# Altium footprint library ESLPcbLib.PcbLib: 11 footprints
Each footprint in its own frame and in the unit in brackets; x right, y up, seen from the top. Pads: shape width x height; smd on the part's side, far side on the other; paste and mask are expansions set on the pad; w line width, h text height; cw(c..) or ccw(c..) is an arc to the next point about the centre after c.
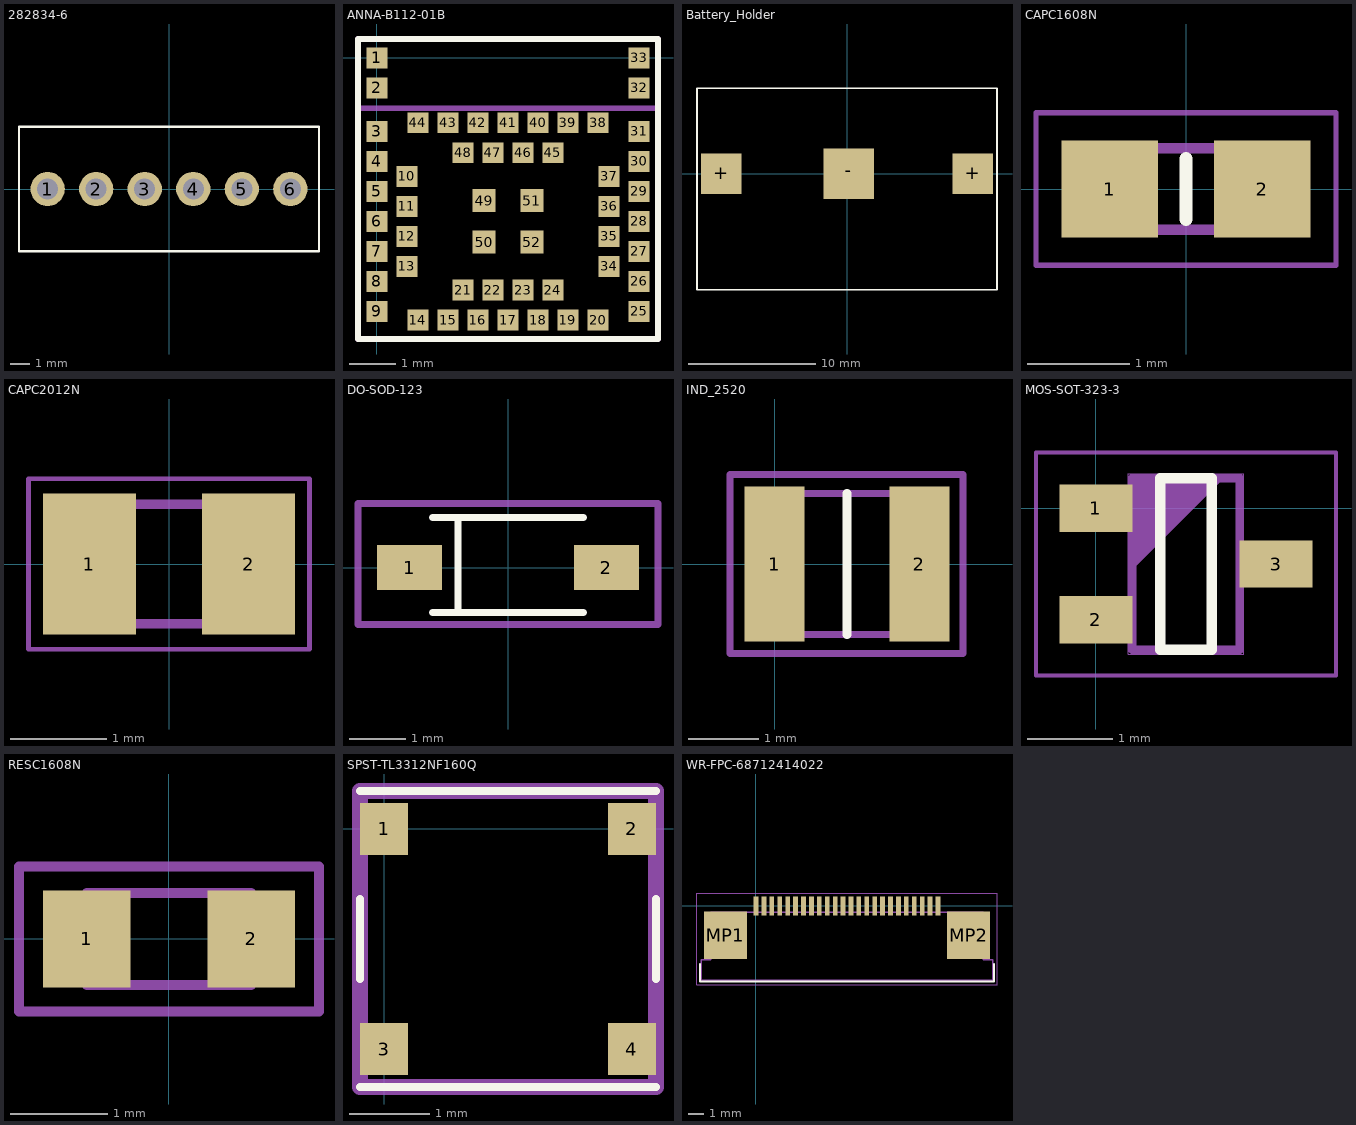
[diagram p0: the footprints below, top view; thin cyan lines are the x and y axes]

## 282834-6 [mm]
pads (6):
  round 1.8 hole 1.1 mask+0.05: 1(-6.35,0) 2(-3.81,0) 3(-1.27,0) 4(1.27,0) 5(3.81,0) 6(6.35,0)
Top Overlay:
  lines w0.127: -7.85,-3.25 7.85,-3.25 7.85,3.25 -7.85,3.25 -7.85,-3.25

## ANNA-B112-01B [mm]
pads (52):
  rect 0.45x0.45 smd: 1(0,0) 2(0,-0.65) 3(0,-1.592) 4(0,-2.242) 5(0,-2.892) 6(0,-3.542) 7(0,-4.192) 8(0,-4.842) 9(0,-5.492) 10(0.65,-2.567) 11(0.65,-3.217) 12(0.65,-3.867) 13(0.65,-4.517) 14(0.89,-5.68) 15(1.54,-5.68) 16(2.19,-5.68) 17(2.84,-5.68) 18(3.49,-5.68) 19(4.14,-5.68) 20(4.79,-5.68) 21(1.865,-5.03) 22(2.515,-5.03) 23(3.165,-5.03) 24(3.815,-5.03) 25(5.68,-5.492) 26(5.68,-4.842) 27(5.68,-4.192) 28(5.68,-3.542) 29(5.68,-2.892) 30(5.68,-2.242) 31(5.68,-1.592) 32(5.68,-0.65) 33(5.68,0) 34(5.03,-4.517) 35(5.03,-3.867) 36(5.03,-3.217) 37(5.03,-2.567) 38(4.79,-1.405) 39(4.14,-1.405) 40(3.49,-1.405) 41(2.84,-1.405) 42(2.19,-1.405) 43(1.54,-1.405) 44(0.89,-1.405) 45(3.815,-2.055) 46(3.165,-2.055) 47(2.515,-2.055) 48(1.865,-2.055)
  rect 0.5x0.5 smd: 49(2.32,-3.092) 50(2.32,-3.992) 51(3.36,-3.092) 52(3.36,-3.992)
Top Overlay:
  lines w0.127: -0.41,-6.09 6.09,-6.09 6.09,0.41 -0.41,0.41 -0.41,-6.09
Mechanical 15:
  lines w0.127: -0.41,-6.09 -0.41,-1.09 ; -0.41,-6.09 -0.41,-1.09 ; -0.41,-6.09 6.09,-6.09 ; -0.41,-6.09 6.09,-6.09 ; -0.41,-1.09 -0.41,0.41 ; -0.41,-1.09 -0.41,0.41 ; -0.41,-1.09 6.09,-1.09 ; -0.41,-1.09 6.09,-1.09 ; -0.41,0.41 6.09,0.41 ; -0.41,0.41 6.09,0.41 ; 6.09,-6.09 6.09,-1.09 ; 6.09,-6.09 6.09,-1.09 ; 6.09,-1.09 6.09,0.41 ; 6.09,-1.09 6.09,0.41
3D body "ANNA-B112--3DModel-STEP-56544.STEP": height 1.25, standoff 0, extent -0.41,-6.142 6.09,0.358

## Battery_Holder [mm]
pads (3):
  rect 3.18x3.18 smd: +(-9.906,0) +(9.906,0)
  rect 3.96x3.96 smd: -(0.127,0)
Top Overlay:
  lines w0.125: -11.811,6.731 11.811,6.731
  lines w0.127: -11.811,6.731 -11.811,2.413 -11.811,-4.445 -11.811,-9.144 -10.414,-9.144 11.811,-9.144 11.811,6.731
3D body "User Library-001085 cr-1632 batt.STEP": height -0.6, standoff -3.8, extent -7.873,-8.761 8.127,7.239
3D body "keystone-PN3092.STEP": height 3.95, standoff -0.01, extent -11.354,-8.763 11.354,6.325

## CAPC1608N [mm]
pads (2):
  rrect0% 0.95x0.95 smd: 1(-0.75,0) 2(0.75,0)
Top Overlay:
  lines w0.127: 0,-0.3 0,0.3
Mechanical 15:
  lines w0.05: -1.475,-0.75 1.475,-0.75 1.475,0.75 -1.475,0.75 -1.475,-0.75
  lines w0.1: -0.8,-0.4 -0.8,0.4 0.8,0.4 0.8,-0.4 -0.8,-0.4
3D body "UMK107BJ105KA-T.stp": height 0.81, standoff 0.01, extent -0.85,-0.45 0.75,0.45

## CAPC2012N [mm]
pads (2):
  rect 0.97x1.47 smd: 1(-0.83,0) 2(0.83,0)
Mechanical 15:
  lines w0.05: -1.465,-0.89 -1.465,0.89 1.465,0.89 1.465,-0.89 -1.465,-0.89
  lines w0.1: -1,-0.625 -1,0.625 1,0.625 1,-0.625 -1,-0.625
3D body "GRM21BZ71H475KE15K.stp": height 1.18, standoff -0.07, extent -1.127,-0.762 0.873,0.688

## DO-SOD-123 [mm]
pads (2):
  rect 1.15x0.8 smd: 1(-1.75,0) 2(1.75,0)
Top Overlay:
  lines w0.127: -1.345,-0.8 1.345,-0.8 ; -1.345,0.889 1.345,0.889 ; -0.889,-0.8 -0.889,0.889
Mechanical 15:
  lines w0.125: -2.667,-1.016 -2.667,1.143 2.667,1.143 2.667,-1.016 -2.667,-1.016
3D body "MBR0530T1G.stp": height 1.35, standoff 0, extent -1.601,-0.8 2.109,0.8

## IND_2520 [mm]
pads (2):
  rect 0.85x2.2 smd: 1(0,0) 2(2.05,0)
Top Overlay:
  lines w0.127: 1.025,-1 1.025,1
Mechanical 15:
  lines w0.1: -0.635,-1.27 2.667,-1.27 2.667,1.27 -0.635,1.27 -0.635,-1.27 ; -0.225,-1 2.275,-1 2.275,1 -0.225,1 -0.225,-1
3D body "1239AS-H-100M=P2.stp": height 1.2, standoff 0, extent -0.225,-1 2.275,1

## MOS-SOT-323-3 [mm]
height 1.1
pads (3):
  rect 0.85x0.55 smd: 1(0,0) 2(0,-1.3) 3(2.1,-0.65)
Top Overlay:
  lines w0.127: 0.75,-1.65 0.75,0.35 1.35,0.35 1.35,-1.65 0.75,-1.65
Mechanical 15:
  lines w0.05: -0.7,-1.95 -0.7,0.65 2.8,0.65 2.8,-1.95 -0.7,-1.95
  lines w0.1: 0.425,-0.65 1.425,0.35 ; 0.425,-0.55 1.325,0.35 ; 0.425,-0.45 1.225,0.35 ; 0.425,-0.35 1.125,0.35 ; 0.425,-0.25 1.025,0.35 ; 0.425,-0.15 0.925,0.35 ; 0.425,-0.05 0.825,0.35 ; 0.425,0.05 0.725,0.35 ; 0.425,0.15 0.625,0.35 ; 0.425,0.25 0.525,0.35 ; 0.425,-1.65 0.425,0.35 1.675,0.35 1.675,-1.65 0.425,-1.65
Mechanical 21:
  lines w0.001: 0.375,-1.7 0.375,0.4 1.725,0.4 1.725,-1.7 0.375,-1.7
3D body "SI1304BDL-T1-E3.stp": height 1.1, standoff 0, extent -0.127,-1.65 1.973,0.35

## RESC1608N [mm] "Chip Resistor, Body 1.6x0.8mm, IPC Medium Density"
height 0.6
pads (2):
  rect 0.9x1 smd: 1(-0.85,0) 2(0.85,0)
Mechanical 13:
  lines w0.1: -0.85,-0.475 0.85,-0.475 0.85,0.475 -0.85,0.475 -0.85,-0.475
Mechanical 15:
  lines w0.1: -1.55,-0.75 1.55,-0.75 1.55,0.75 -1.55,0.75 -1.55,-0.75
3D body "CRCW0603160RFKEA.stp": height 0.5, standoff 0, extent -0.787,-0.425 0.788,0.425

## SPST-TL3312NF160Q [mm]
pads (4):
  rect 0.6x0.65 smd: 1(0,0) 2(3.1,0) 3(0,-2.75) 4(3.1,-2.75)
Top Overlay:
  lines w0.1: -0.3,-3.225 3.4,-3.225 ; -0.3,-1.875 -0.3,-0.875 ; -0.3,0.475 3.4,0.475 ; 3.4,-1.875 3.4,-0.875
Mechanical 15:
  lines w0.2: -0.3,-3.225 3.4,-3.225 3.4,0.475 -0.3,0.475 -0.3,-3.225
3D body "Part4.STEP": height 0.81, standoff 0, extent -0.326,-3.247 3.374,0.453

## WR-FPC-68712414022 [mm] "ZIF Connectors, Horizontal, Top Contact, pitch 0.5mm, 24p"
height 2.25
pads (26):
  rect 0.3x1.2 smd: 1(0,0) 2(0.5,0) 3(1,0) 4(1.5,0) 5(2,0) 6(2.5,0) 7(3,0) 8(3.5,0) 9(4,0) 10(4.5,0) 11(5,0) 12(5.5,0) 13(6,0) 14(6.5,0) 15(7,0) 16(7.5,0) 17(8,0) 18(8.5,0) 19(9,0) 20(9.5,0) 21(10,0) 22(10.5,0) 23(11,0) 24(11.5,0)
  rect 2.7x3 smd: MP1(-1.93,-1.86) MP2(13.43,-1.86)
Top Overlay:
  lines w0.127: -3.525,-3.66 -3.525,-4.785 15.025,-4.785 15.025,-3.66
Mechanical 13:
  lines w0.1: -3.45,-4.71 14.95,-4.71 14.95,-3.41 14.35,-3.41 14.35,-0.41 -2.85,-0.41 -2.85,-3.41 -3.45,-3.41 -3.45,-4.71
Mechanical 15:
  lines w0.05: -3.725,-4.985 15.225,-4.985 15.225,0.8 -3.725,0.8 -3.725,-4.985
3D body "68712414022.stp": height 2.1, standoff 0, extent -3.45,-4.71 14.95,0.39